# Altium integrated library Analog Devices Data Converters Digital-to-Analog Converters.IntLib: 2231 symbols (part 177 of 181)
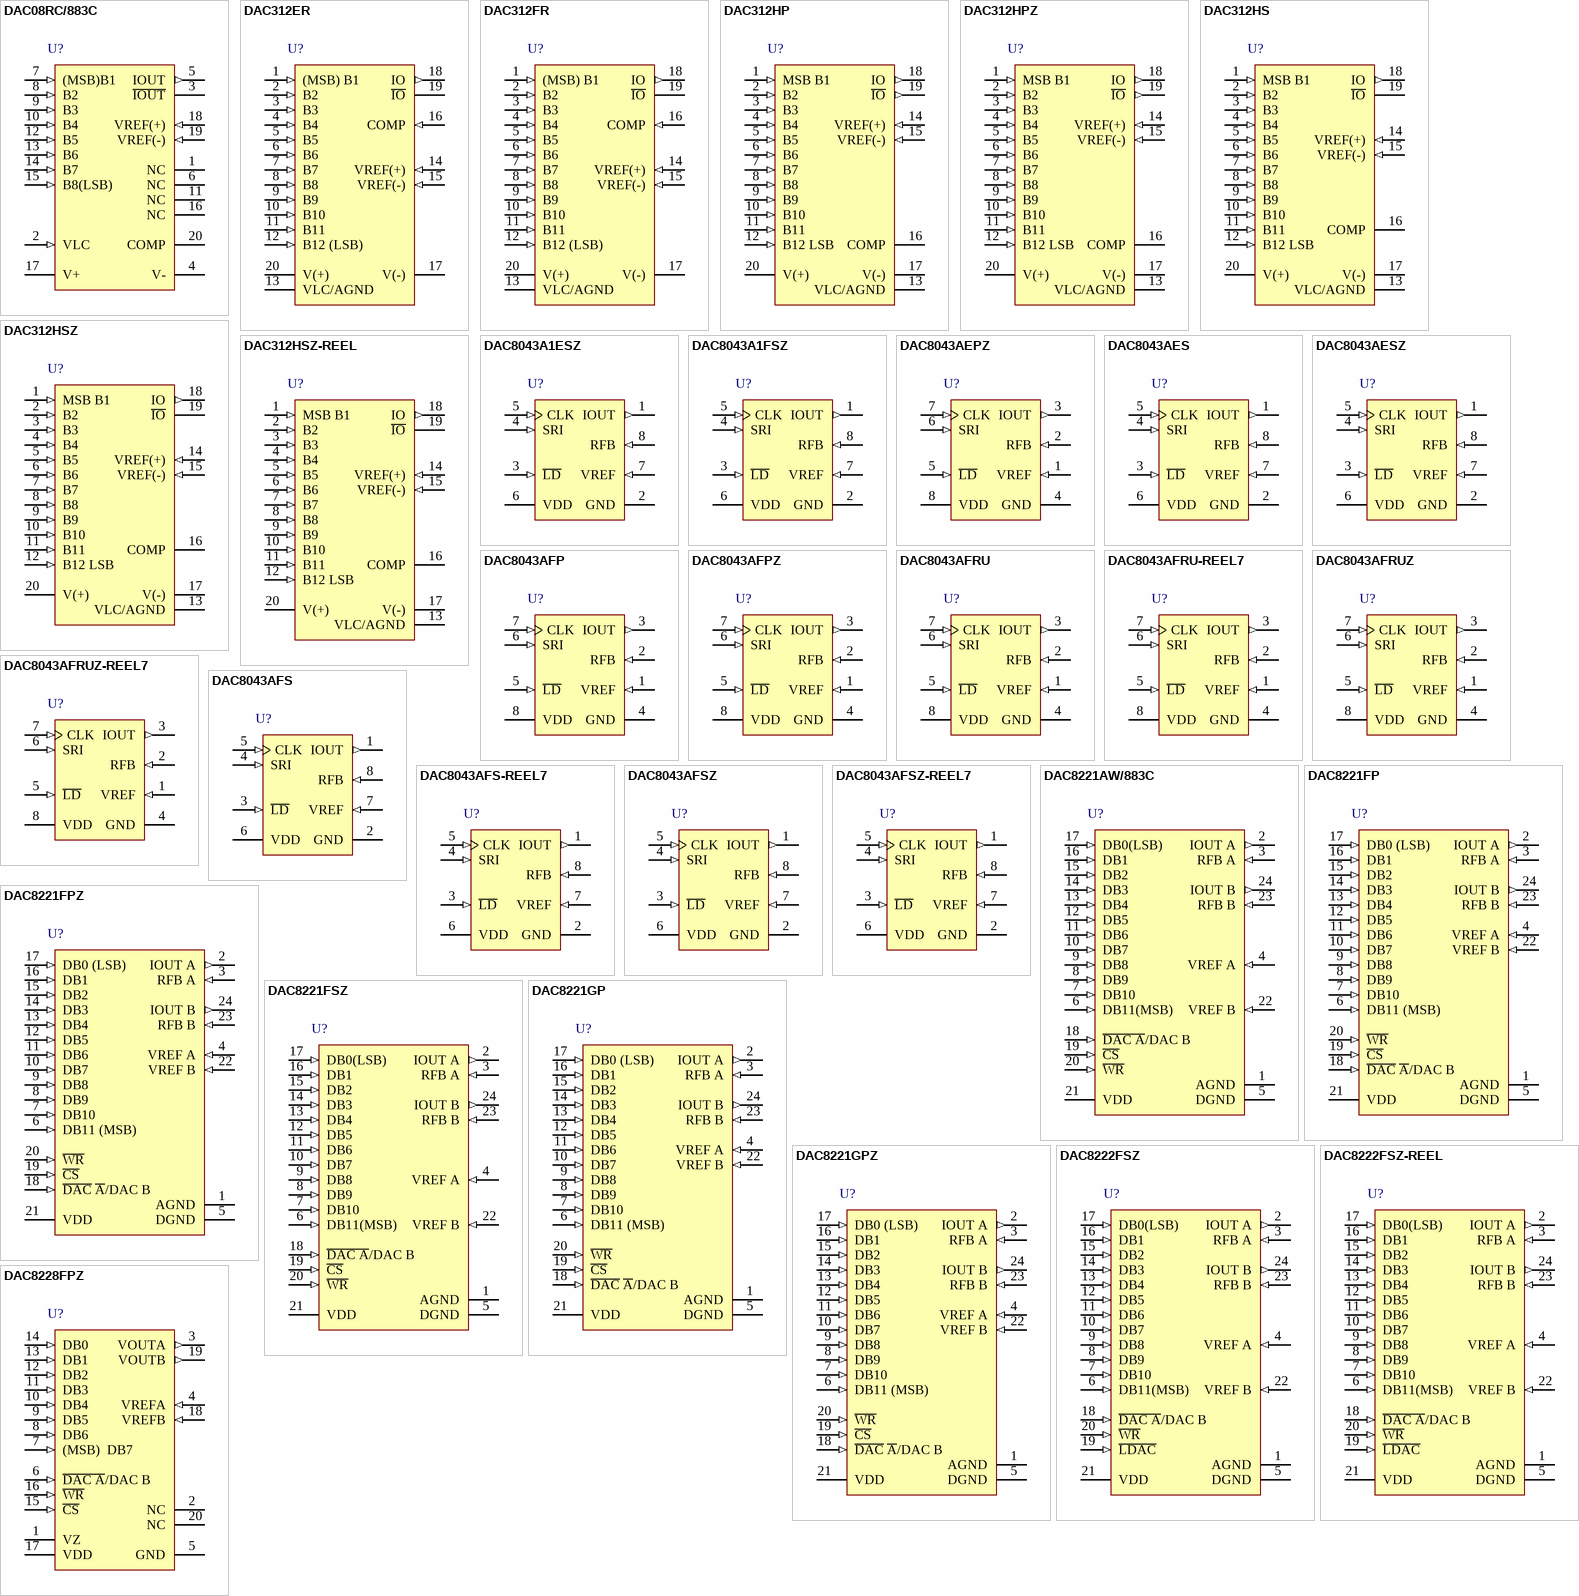
[diagram p290: symbols DAC08RC/883C to DAC8228FPZ]

## DAC8221GP
designator U?
Dual 12-Bit CMOS Buffered Multiplying Digital-to-Analog Converter, 0 to +70 degC, N-24-1, Tube; Generic Part Number: DAC8221; Manufacturer: Analog Devices; PartNumber: DAC8221GP; # DAC Outputs: 2; Max V+: 15.75V; Op Pwr Diss: 5mW; Resolution (Bits): 12; Settling Time: 450ns; Single Supply: Yes; DatasheetVersion: Rev.B; PackageVersion: 071006-A; PackageReference: N-24-1; PackageDescription: 24-Lead Plastic Dual In-Line Package [PDIP] Narrow Body; Supplier 1: Digi-Key; Supplier Part Number 1: DAC8221GP-ND; Supplier 2: Mouser; Supplier Part Number 2: 584-DAC8221GP; Packing: Tube; RoHS: N; Mounting Technology: Through Hole; Code_JEDEC: MS-001; ComponentLink1Description: Manufacturer URL; ComponentLink1URL: http://www.analog.com/en/index.html; ComponentLink2Description: Datasheet; ComponentLink2URL: http://www.analog.com/static/imported-files/data_sheets/DAC8221.pdf; ComponentLink3Description: Package Specification; ComponentLink3URL: http://www.analog.com/static/imported-files/packages/50726455539629N_24_1.pdf; ComponentLink4Description: Product URL; ComponentLink4URL: http://www.analog.com/en/digital-to-analog-converters/da-converters/dac8221/products/product.html
footprint N-24-1 (DIP, 24-Leads, Row Spacing 7.62mm, Pitch 2.54mm, Body 31.9x6.6mm)
pins: 1 AGND (power), 2 IOUT A (out), 3 RFB A (in), 4 VREF A (in), 5 DGND (power), 6 DB11 (MSB) (in), 7 DB10 (in), 8 DB9 (in), 9 DB8 (in), 10 DB7 (in), 11 DB6 (in), 12 DB5 (in), 13 DB4 (in), 14 DB3 (in), 15 DB2 (in), 16 DB1 (in), 17 DB0 (LSB) (in), 18 ~{DAC} ~{A}/DAC B (in), 19 ~{CS} (in), 20 ~{WR} (in), 21 VDD (power), 22 VREF B (in), 23 RFB B (in), 24 IOUT B (out)

## DAC8221GPZ
designator U?
Dual 12-Bit CMOS Buffered Multiplying Digital-to-Analog Converter, 0 to +70 degC, N-24-1, Pb-Free, Tube; Generic Part Number: DAC8221; Manufacturer: Analog Devices; PartNumber: DAC8221GPZ; # DAC Outputs: 2; Max V+: 15.75V; Op Pwr Diss: 5mW; Resolution (Bits): 12; Settling Time: 450ns; Single Supply: Yes; DatasheetVersion: Rev.B; PackageVersion: 071006-A; PackageReference: N-24-1; PackageDescription: 24-Lead Plastic Dual In-Line Package [PDIP] Narrow Body; Supplier 1: Digi-Key; Supplier Part Number 1: DAC8221GPZ-ND; Supplier 2: Mouser; Supplier Part Number 2: 584-DAC8221GPZ; Packing: Tube; RoHS: Y; Mounting Technology: Through Hole; Code_JEDEC: MS-001; ComponentLink1Description: Manufacturer URL; ComponentLink1URL: http://www.analog.com/en/index.html; ComponentLink2Description: Datasheet; ComponentLink2URL: http://www.analog.com/static/imported-files/data_sheets/DAC8221.pdf; ComponentLink3Description: Package Specification; ComponentLink3URL: http://www.analog.com/static/imported-files/packages/50726455539629N_24_1.pdf; ComponentLink4Description: Product URL; ComponentLink4URL: http://www.analog.com/en/digital-to-analog-converters/da-converters/dac8221/products/product.html
footprint N-24-1 (DIP, 24-Leads, Row Spacing 7.62mm, Pitch 2.54mm, Body 31.9x6.6mm)
pins: 1 AGND (power), 2 IOUT A (out), 3 RFB A (in), 4 VREF A (in), 5 DGND (power), 6 DB11 (MSB) (in), 7 DB10 (in), 8 DB9 (in), 9 DB8 (in), 10 DB7 (in), 11 DB6 (in), 12 DB5 (in), 13 DB4 (in), 14 DB3 (in), 15 DB2 (in), 16 DB1 (in), 17 DB0 (LSB) (in), 18 ~{DAC} ~{A}/DAC B (in), 19 ~{CS} (in), 20 ~{WR} (in), 21 VDD (power), 22 VREF B (in), 23 RFB B (in), 24 IOUT B (out)

## DAC8222FSZ
designator U?
Dual 12-Bit CMOS Buffered Multiplying Digital-to-Analog Converter, -40 to +85 degC, RW-24, Pb-Free, Tube; Generic Part Number: DAC8222; Manufacturer: Analog Devices; PartNumber: DAC8222FSZ; # DAC Outputs: 2; Max V+: 15.75V; Op Pwr Diss: 50µW; Resolution (Bits): 12; Settling Time: 1µs; Single Supply: Yes; DatasheetVersion: Rev.C; PackageVersion: 060706-A; PackageReference: RW-24; PackageDescription: 24-Lead Standard Small Outline Package [SOIC_W]; Supplier 1: Digi-Key; Supplier Part Number 1: DAC8222FSZ-ND; Supplier 2: Farnell; Supplier Part Number 2: 1438738; Supplier 3: Newark; Supplier Part Number 3: 59K7927; Supplier 4: Mouser; Supplier Part Number 4: 584-DAC8222FSZ; Packing: Tube; RoHS: Y; Mounting Technology: Surface Mount; Code_JEDEC: MS-013-AD; ComponentLink1Description: Manufacturer URL; ComponentLink1URL: http://www.analog.com/en/index.html; ComponentLink2Description: Datasheet; ComponentLink2URL: http://www.analog.com/static/imported-files/data_sheets/DAC8222.pdf; ComponentLink3Description: Package Specification; ComponentLink3URL: http://www.analog.com/static/imported-files/packages/33665150946139RW_24.pdf; ComponentLink4Description: Product URL; ComponentLink4URL: http://www.analog.com/en/digital-to-analog-converters/da-converters/dac8222/products/product.html
footprint RW-24_N (SOIC, 24-Leads, Body 15.4x7.5mm, Pitch 1.27mm, IPC Medium Density)
footprint RW-24_L (SOIC, 24-Leads, Body 15.4x7.5mm, Pitch 1.27mm, IPC High Density)
footprint RW-24_M (SOIC, 24-Leads, Body 15.4x7.5mm, Pitch 1.27mm, IPC Low Density)
pins: 1 AGND (power), 2 IOUT A (out), 3 RFB A (in), 4 VREF A (in), 5 DGND (power), 6 DB11(MSB) (in), 7 DB10 (in), 8 DB9 (in), 9 DB8 (in), 10 DB7 (in), 11 DB6 (in), 12 DB5 (in), 13 DB4 (in), 14 DB3 (in), 15 DB2 (in), 16 DB1 (in), 17 DB0(LSB) (in), 18 ~{DAC A}/DAC B (in), 19 ~{LDAC} (in), 20 ~{WR} (in), 21 VDD (power), 22 VREF B (in), 23 RFB B (in), 24 IOUT B (out)

## DAC8222FSZ-REEL
designator U?
Dual 12-Bit CMOS Buffered Multiplying Digital-to-Analog Converter, 0 to +70 degC, RW-24, Pb-Free, Reel; Generic Part Number: DAC8222; Manufacturer: Analog Devices; PartNumber: DAC8222FSZ-REEL; # DAC Outputs: 2; Max V+: 15.75V; Op Pwr Diss: 50µW; Resolution (Bits): 12; Settling Time: 1µs; Single Supply: Yes; DatasheetVersion: Rev.C; PackageVersion: 060706-A; PackageReference: RW-24; PackageDescription: 24-Lead Standard Small Outline Package [SOIC_W]; Supplier 1: Digi-Key; Supplier Part Number 1: DAC8222FSZ-REEL-ND; Supplier 2: Newark; Supplier Part Number 2: 52R8312; Supplier 3: Mouser; Supplier Part Number 3: 584-DAC8222FSZ-R; Packing: Reel; RoHS: Y; Mounting Technology: Surface Mount; Code_JEDEC: MS-013-AD; ComponentLink1Description: Manufacturer URL; ComponentLink1URL: http://www.analog.com/en/index.html; ComponentLink2Description: Datasheet; ComponentLink2URL: http://www.analog.com/static/imported-files/data_sheets/DAC8222.pdf; ComponentLink3Description: Package Specification; ComponentLink3URL: http://www.analog.com/static/imported-files/packages/33665150946139RW_24.pdf; ComponentLink4Description: Product URL; ComponentLink4URL: http://www.analog.com/en/digital-to-analog-converters/da-converters/dac8222/products/product.html
footprint RW-24_N (SOIC, 24-Leads, Body 15.4x7.5mm, Pitch 1.27mm, IPC Medium Density)
footprint RW-24_L (SOIC, 24-Leads, Body 15.4x7.5mm, Pitch 1.27mm, IPC High Density)
footprint RW-24_M (SOIC, 24-Leads, Body 15.4x7.5mm, Pitch 1.27mm, IPC Low Density)
pins: 1 AGND (power), 2 IOUT A (out), 3 RFB A (in), 4 VREF A (in), 5 DGND (power), 6 DB11(MSB) (in), 7 DB10 (in), 8 DB9 (in), 9 DB8 (in), 10 DB7 (in), 11 DB6 (in), 12 DB5 (in), 13 DB4 (in), 14 DB3 (in), 15 DB2 (in), 16 DB1 (in), 17 DB0(LSB) (in), 18 ~{DAC A}/DAC B (in), 19 ~{LDAC} (in), 20 ~{WR} (in), 21 VDD (power), 22 VREF B (in), 23 RFB B (in), 24 IOUT B (out)

## DAC8228FPZ
designator U?
Dual 8-Bit CMOS Voltage Output Digital-to-Analog Converter, -40 to +85 degC, N-20, Pb-Free, Tube; Generic Part Number: DAC8228; Manufacturer: Analog Devices; PartNumber: DAC8228FPZ; # DAC Outputs: 2; Max V+: 15.75V; Op Pwr Diss: 84mW; Resolution (Bits): 8; Settling Time: 2µs; Single Supply: Yes; DatasheetVersion: Rev.A; PackageVersion: 070706-A; PackageReference: N-20; PackageDescription: 20-Lead Plastic Dual In-Line Package [PDIP] Narrow Body; Supplier 1: Digi-Key; Supplier Part Number 1: DAC8228FPZ-ND; Supplier 2: Farnell; Supplier Part Number 2: 1079367; Supplier 3: Newark; Supplier Part Number 3: 31M4868; Supplier 4: Mouser; Supplier Part Number 4: 584-DAC8228FPZ; Packing: Tube; RoHS: Y; Mounting Technology: Through Hole; Code_JEDEC: MS-001; ComponentLink1Description: Manufacturer URL; ComponentLink1URL: http://www.analog.com/en/index.html; ComponentLink2Description: Datasheet; ComponentLink2URL: http://www.analog.com/static/imported-files/data_sheets/DAC8228.pdf; ComponentLink3Description: Package Specification; ComponentLink3URL: http://www.analog.com/static/imported-files/packages/50601349676519N_20.pdf; ComponentLink4Description: Product URL; ComponentLink4URL: http://www.analog.com/en/digital-to-analog-converters/da-converters/dac8228/products/product.html
footprint N-20 (DIP, 20-Leads, Row Spacing 7.62mm, Pitch 2.54mm, Body 25.9x6.6mm)
pins: 1 VZ (power), 2 NC, 3 VOUTA (out), 4 VREFA (in), 5 GND (power), 6 ~{DAC A}/DAC B (in), 7 (MSB)  DB7 (in), 8 DB6 (in), 9 DB5 (in), 10 DB4 (in), 11 DB3 (in), 12 DB2 (in), 13 DB1 (in), 14 DB0 (in), 15 ~{CS} (in), 16 ~{WR} (in), 17 VDD (power), 18 VREFB (in), 19 VOUTB (out), 20 NC

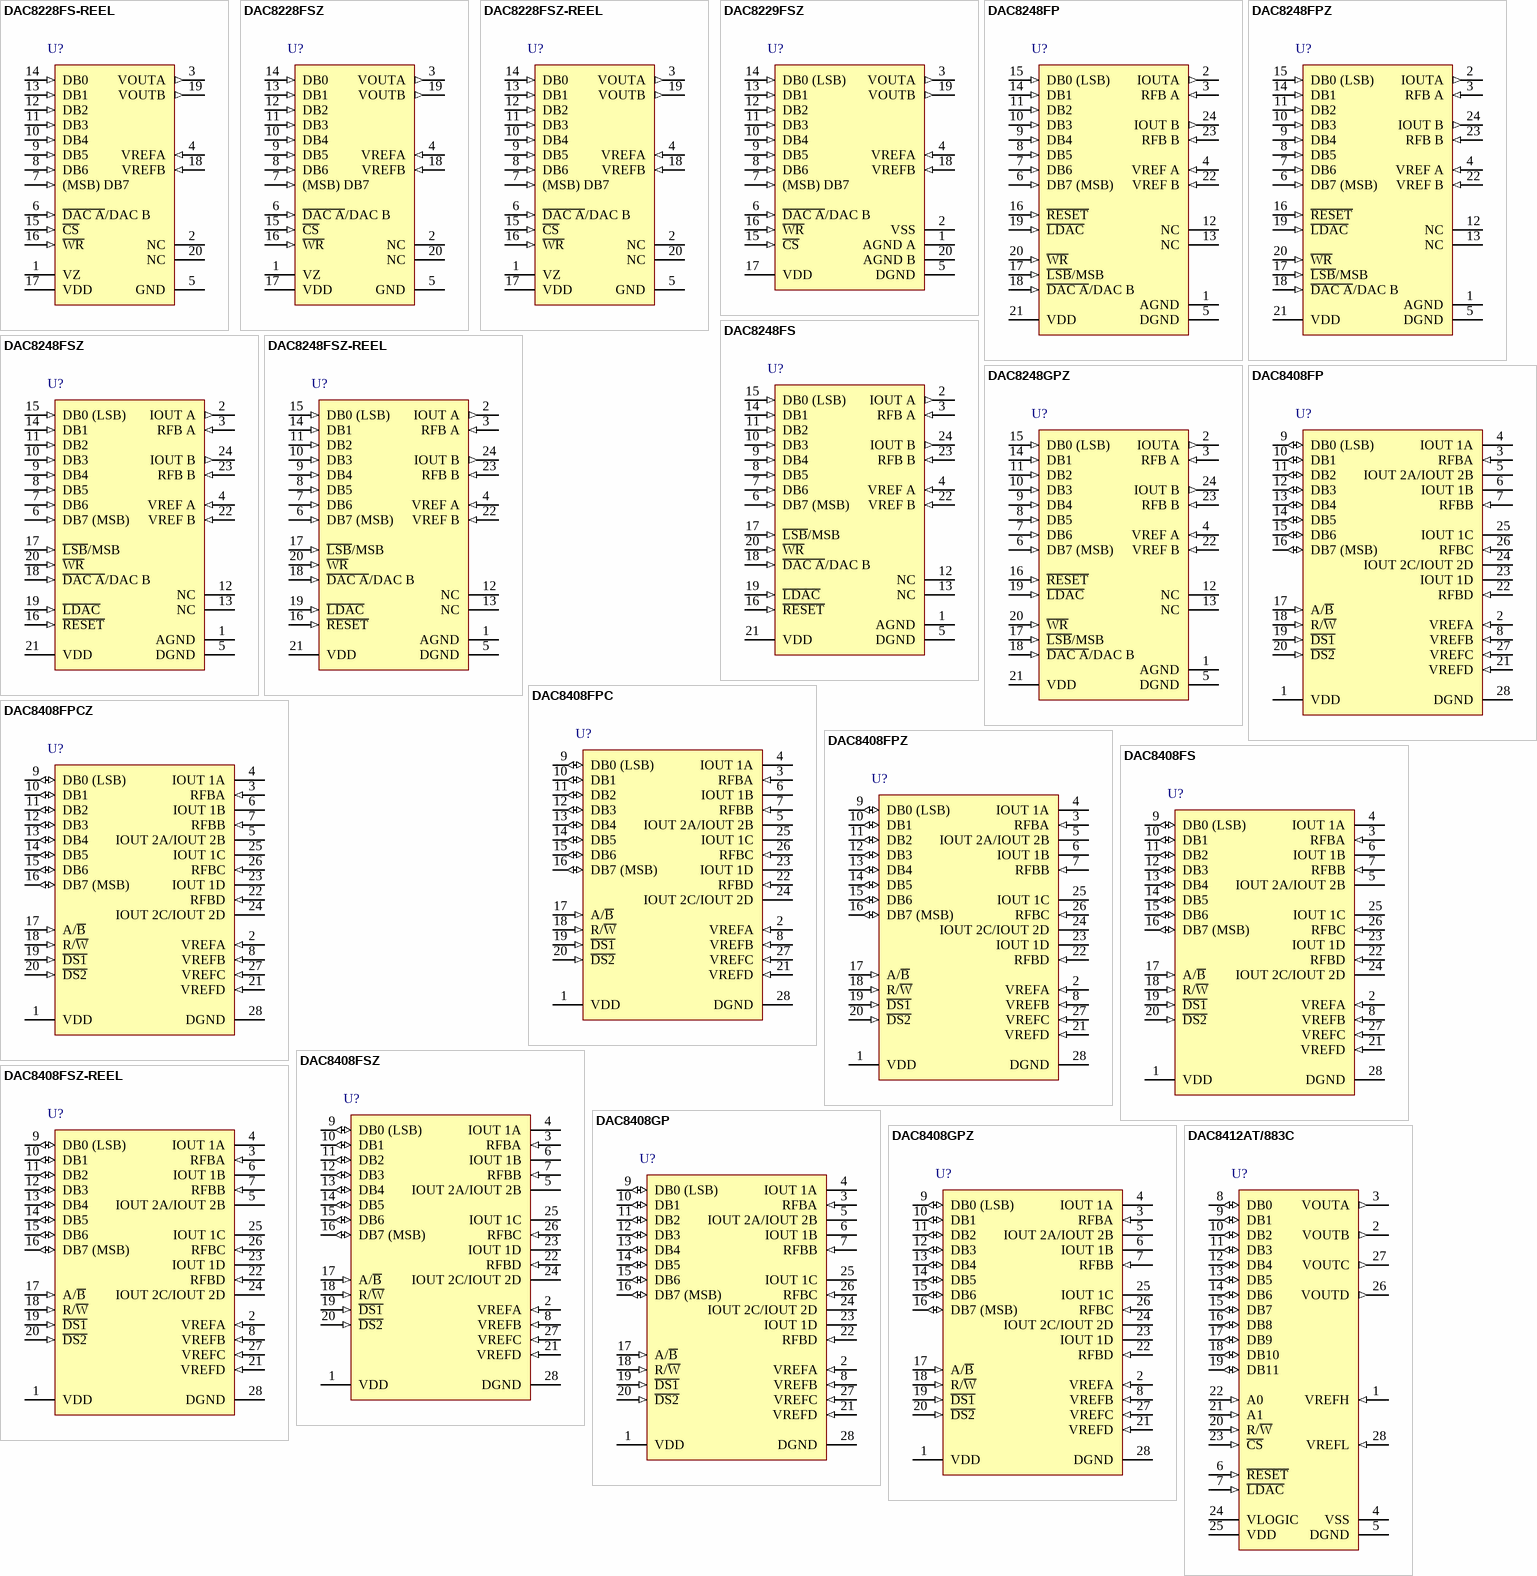
[diagram p111: symbols DAC8228FS-REEL to DAC8412AT/883C]

## DAC8228FS-REEL
designator U?
Dual 8-Bit CMOS Voltage Output Digital-to-Analog Converter, 0 to +70 degC, RW-20, Reel; Generic Part Number: DAC8228; Manufacturer: Analog Devices; PartNumber: DAC8228FS-REEL; # DAC Outputs: 2; Max V+: 15.75V; Op Pwr Diss: 84mW; Resolution (Bits): 8; Settling Time: 2µs; Single Supply: Yes; DatasheetVersion: Rev.A; PackageVersion: 060706-A; PackageReference: RW-20; PackageDescription: 20-Lead Standard Small Outline Package [SOIC_W] Wide Body; Supplier 1: Digi-Key; Supplier Part Number 1: DAC8228FS-REELTR-ND; Supplier 2: Digi-Key; Supplier Part Number 2: DAC8228FS-REELCT-ND; Supplier 3: Digi-Key; Supplier Part Number 3: DAC8228FS-REELDKR-ND; Supplier 4: Mouser; Supplier Part Number 4: 584-DAC8228FS-R; Packing: Reel; RoHS: N; Mounting Technology: Surface Mount; Code_JEDEC: MS-013-AC; ComponentLink1Description: Manufacturer URL; ComponentLink1URL: http://www.analog.com/en/index.html; ComponentLink2Description: Datasheet; ComponentLink2URL: http://www.analog.com/static/imported-files/data_sheets/DAC8228.pdf; ComponentLink3Description: Package Specification; ComponentLink3URL: http://www.analog.com/static/imported-files/packages/233848RW_20.pdf; ComponentLink4Description: Product URL; ComponentLink4URL: http://www.analog.com/en/digital-to-analog-converters/da-converters/dac8228/products/product.html
footprint RW-20_N (SOIC, 20-Leads, Body 12.8x7.5mm, Pitch 1.27mm, IPC Medium Density)
footprint RW-20_L (SOIC, 20-Leads, Body 12.8x7.5mm, Pitch 1.27mm, IPC High Density)
footprint RW-20_M (SOIC, 20-Leads, Body 12.8x7.5mm, Pitch 1.27mm, IPC Low Density)
pins: 1 VZ (power), 2 NC, 3 VOUTA (out), 4 VREFA (in), 5 GND (power), 6 ~{DAC A}/DAC B (in), 7 (MSB) DB7 (in), 8 DB6 (in), 9 DB5 (in), 10 DB4 (in), 11 DB3 (in), 12 DB2 (in), 13 DB1 (in), 14 DB0 (in), 15 ~{CS} (in), 16 ~{WR} (in), 17 VDD (power), 18 VREFB (in), 19 VOUTB (out), 20 NC

## DAC8228FSZ
designator U?
Dual 8-Bit CMOS Voltage Output Digital-to-Analog Converter, -40 to +85 degC, RW-20, Pb-Free, Tube; Generic Part Number: DAC8228; Manufacturer: Analog Devices; PartNumber: DAC8228FSZ; # DAC Outputs: 2; Max V+: 15.75V; Op Pwr Diss: 84mW; Resolution (Bits): 8; Settling Time: 2µs; Single Supply: Yes; DatasheetVersion: Rev.A; PackageVersion: 060706-A; PackageReference: RW-20; PackageDescription: 20-Lead Standard Small Outline Package [SOIC_W] Wide Body; Supplier 1: Digi-Key; Supplier Part Number 1: DAC8228FSZ-ND; Supplier 2: Mouser; Supplier Part Number 2: 584-DAC8228FSZ; Packing: Tube; RoHS: Y; Mounting Technology: Surface Mount; Code_JEDEC: MS-013-AC; ComponentLink1Description: Manufacturer URL; ComponentLink1URL: http://www.analog.com/en/index.html; ComponentLink2Description: Datasheet; ComponentLink2URL: http://www.analog.com/static/imported-files/data_sheets/DAC8228.pdf; ComponentLink3Description: Package Specification; ComponentLink3URL: http://www.analog.com/static/imported-files/packages/233848RW_20.pdf; ComponentLink4Description: Product URL; ComponentLink4URL: http://www.analog.com/en/digital-to-analog-converters/da-converters/dac8228/products/product.html
footprint RW-20_N (SOIC, 20-Leads, Body 12.8x7.5mm, Pitch 1.27mm, IPC Medium Density)
footprint RW-20_L (SOIC, 20-Leads, Body 12.8x7.5mm, Pitch 1.27mm, IPC High Density)
footprint RW-20_M (SOIC, 20-Leads, Body 12.8x7.5mm, Pitch 1.27mm, IPC Low Density)
pins: 1 VZ (power), 2 NC, 3 VOUTA (out), 4 VREFA (in), 5 GND (power), 6 ~{DAC A}/DAC B (in), 7 (MSB) DB7 (in), 8 DB6 (in), 9 DB5 (in), 10 DB4 (in), 11 DB3 (in), 12 DB2 (in), 13 DB1 (in), 14 DB0 (in), 15 ~{CS} (in), 16 ~{WR} (in), 17 VDD (power), 18 VREFB (in), 19 VOUTB (out), 20 NC

## DAC8228FSZ-REEL
designator U?
Dual 8-Bit CMOS Voltage Output Digital-to-Analog Converter, 0 to +70 degC, RW-20, Pb-Free, Reel; Generic Part Number: DAC8228; Manufacturer: Analog Devices; PartNumber: DAC8228FSZ-REEL; # DAC Outputs: 2; Max V+: 15.75V; Op Pwr Diss: 84mW; Resolution (Bits): 8; Settling Time: 2µs; Single Supply: Yes; DatasheetVersion: Rev.A; PackageVersion: 060706-A; PackageReference: RW-20; PackageDescription: 20-Lead Standard Small Outline Package [SOIC_W] Wide Body; Supplier 1: Digi-Key; Supplier Part Number 1: DAC8228FSZ-REEL-ND; Supplier 2: Mouser; Supplier Part Number 2: 584-DAC8228FSZ-R; Packing: Reel; RoHS: Y; Mounting Technology: Surface Mount; Code_JEDEC: MS-013-AC; ComponentLink1Description: Manufacturer URL; ComponentLink1URL: http://www.analog.com/en/index.html; ComponentLink2Description: Datasheet; ComponentLink2URL: http://www.analog.com/static/imported-files/data_sheets/DAC8228.pdf; ComponentLink3Description: Package Specification; ComponentLink3URL: http://www.analog.com/static/imported-files/packages/233848RW_20.pdf; ComponentLink4Description: Product URL; ComponentLink4URL: http://www.analog.com/en/digital-to-analog-converters/da-converters/dac8228/products/product.html
footprint RW-20_N (SOIC, 20-Leads, Body 12.8x7.5mm, Pitch 1.27mm, IPC Medium Density)
footprint RW-20_L (SOIC, 20-Leads, Body 12.8x7.5mm, Pitch 1.27mm, IPC High Density)
footprint RW-20_M (SOIC, 20-Leads, Body 12.8x7.5mm, Pitch 1.27mm, IPC Low Density)
pins: 1 VZ (power), 2 NC, 3 VOUTA (out), 4 VREFA (in), 5 GND (power), 6 ~{DAC A}/DAC B (in), 7 (MSB) DB7 (in), 8 DB6 (in), 9 DB5 (in), 10 DB4 (in), 11 DB3 (in), 12 DB2 (in), 13 DB1 (in), 14 DB0 (in), 15 ~{CS} (in), 16 ~{WR} (in), 17 VDD (power), 18 VREFB (in), 19 VOUTB (out), 20 NC

## DAC8229FSZ
designator U?
Dual 8-Bit CMOS Voltage Output Digital-to-Analog Converter, -40 to +85 degC, RW-20, Pb-Free, Tube; Generic Part Number: DAC8229; Manufacturer: Analog Devices; PartNumber: DAC8229FSZ; # DAC Outputs: 2; Max V+: 15.75V; Op Pwr Diss: 97mW; Resolution (Bits): 8; Settling Time: 2µs; Single Supply: No; DatasheetVersion: Rev.A; PackageVersion: 060706-A; PackageReference: RW-20; PackageDescription: 20-Lead Standard Small Outline Package [SOIC_W] Wide Body; Supplier 1: Digi-Key; Supplier Part Number 1: DAC8229FSZ-ND; Supplier 2: Farnell; Supplier Part Number 2: 2312727; Supplier 3: Newark; Supplier Part Number 3: 12M9665; Supplier 4: Mouser; Supplier Part Number 4: 584-DAC8229FSZ; Packing: Tube; RoHS: Y; Mounting Technology: Surface Mount; Code_JEDEC: MS-013-AC; ComponentLink1Description: Manufacturer URL; ComponentLink1URL: http://www.analog.com/en/index.html; ComponentLink2Description: Datasheet; ComponentLink2URL: http://www.analog.com/static/imported-files/data_sheets/DAC8229.pdf; ComponentLink3Description: Package Specification; ComponentLink3URL: http://www.analog.com/static/imported-files/packages/233848RW_20.pdf; ComponentLink4Description: Product URL; ComponentLink4URL: http://www.analog.com/en/digital-to-analog-converters/da-converters/dac8229/products/product.html
footprint RW-20_N (SOIC, 20-Leads, Body 12.8x7.5mm, Pitch 1.27mm, IPC Medium Density)
footprint RW-20_L (SOIC, 20-Leads, Body 12.8x7.5mm, Pitch 1.27mm, IPC High Density)
footprint RW-20_M (SOIC, 20-Leads, Body 12.8x7.5mm, Pitch 1.27mm, IPC Low Density)
pins: 1 AGND A (power), 2 VSS (power), 3 VOUTA (out), 4 VREFA (in), 5 DGND (power), 6 ~{DAC A}/DAC B (in), 7 (MSB) DB7 (in), 8 DB6 (in), 9 DB5 (in), 10 DB4 (in), 11 DB3 (in), 12 DB2 (in), 13 DB1 (in), 14 DB0 (LSB) (in), 15 ~{CS} (in), 16 ~{WR} (in), 17 VDD (power), 18 VREFB (in), 19 VOUTB (out), 20 AGND B (power)

## DAC8248FP
designator U?
Dual 12-Bit (8-Bit Byte) CMOS Double-Buffered Digital-to-Analog Converter, -40 to +85 degC, N-24-1, Tube; Generic Part Number: DAC8248; Manufacturer: Analog Devices; PartNumber: DAC8248FP; # DAC Outputs: 2; Max V+: 15.75V; Op Pwr Diss: 30mW; Resolution (Bits): 12; Settling Time: 1µs; Single Supply: Yes; DatasheetVersion: Rev.B; PackageVersion: 071006-A; PackageReference: N-24-1; PackageDescription: 24-Lead Plastic Dual In-Line Package [PDIP] Narrow Body; Supplier 1: Digi-Key; Supplier Part Number 1: DAC8248FP-ND; Supplier 2: Mouser; Supplier Part Number 2: 584-DAC8248FP; Packing: Tube; RoHS: N; Mounting Technology: Through Hole; Code_JEDEC: MS-001; ComponentLink1Description: Manufacturer URL; ComponentLink1URL: http://www.analog.com/en/index.html; ComponentLink2Description: Datasheet; ComponentLink2URL: http://www.analog.com/static/imported-files/data_sheets/DAC8248.pdf; ComponentLink3Description: Package Specification; ComponentLink3URL: http://www.analog.com/static/imported-files/packages/50726455539629N_24_1.pdf; ComponentLink4Description: Product URL; ComponentLink4URL: http://www.analog.com/en/digital-to-analog-converters/da-converters/dac8248/products/product.html
footprint N-24-1 (DIP, 24-Leads, Row Spacing 7.62mm, Pitch 2.54mm, Body 31.9x6.6mm)
pins: 1 AGND (power), 2 IOUTA (out), 3 RFB A (in), 4 VREF A (in), 5 DGND (power), 6 DB7 (MSB) (in), 7 DB6 (in), 8 DB5 (in), 9 DB4 (in), 10 DB3 (in), 11 DB2 (in), 12 NC, 13 NC, 14 DB1 (in), 15 DB0 (LSB) (in), 16 ~{RESET} (in), 17 ~{LSB}/MSB (in), 18 ~{DAC A}/DAC B (in), 19 ~{LDAC} (in), 20 ~{WR} (in), 21 VDD (power), 22 VREF B (in), 23 RFB B (in), 24 IOUT B (out)

## DAC8248FPZ
designator U?
Dual 12-Bit (8-Bit Byte) CMOS Double-Buffered Digital-to-Analog Converter, -40 to +85 degC, N-24-1, Pb-Free, Tube; Generic Part Number: DAC8248; Manufacturer: Analog Devices; PartNumber: DAC8248FPZ; # DAC Outputs: 2; Max V+: 15.75V; Op Pwr Diss: 30mW; Resolution (Bits): 12; Settling Time: 1µs; Single Supply: Yes; DatasheetVersion: Rev.B; PackageVersion: 071006-A; PackageReference: N-24-1; PackageDescription: 24-Lead Plastic Dual In-Line Package [PDIP] Narrow Body; Supplier 1: Digi-Key; Supplier Part Number 1: DAC8248FPZ-ND; Supplier 2: Farnell; Supplier Part Number 2: 1581906; Supplier 3: Newark; Supplier Part Number 3: 15P1429; Supplier 4: Mouser; Supplier Part Number 4: 584-DAC8248FPZ; Packing: Tube; RoHS: Y; Mounting Technology: Through Hole; Code_JEDEC: MS-001; ComponentLink1Description: Manufacturer URL; ComponentLink1URL: http://www.analog.com/en/index.html; ComponentLink2Description: Datasheet; ComponentLink2URL: http://www.analog.com/static/imported-files/data_sheets/DAC8248.pdf; ComponentLink3Description: Package Specification; ComponentLink3URL: http://www.analog.com/static/imported-files/packages/50726455539629N_24_1.pdf; ComponentLink4Description: Product URL; ComponentLink4URL: http://www.analog.com/en/digital-to-analog-converters/da-converters/dac8248/products/product.html
footprint N-24-1 (DIP, 24-Leads, Row Spacing 7.62mm, Pitch 2.54mm, Body 31.9x6.6mm)
pins: 1 AGND (power), 2 IOUTA (out), 3 RFB A (in), 4 VREF A (in), 5 DGND (power), 6 DB7 (MSB) (in), 7 DB6 (in), 8 DB5 (in), 9 DB4 (in), 10 DB3 (in), 11 DB2 (in), 12 NC, 13 NC, 14 DB1 (in), 15 DB0 (LSB) (in), 16 ~{RESET} (in), 17 ~{LSB}/MSB (in), 18 ~{DAC A}/DAC B (in), 19 ~{LDAC} (in), 20 ~{WR} (in), 21 VDD (power), 22 VREF B (in), 23 RFB B (in), 24 IOUT B (out)

## DAC8248FS
designator U?
Dual 12-Bit (8-Bit Byte) CMOS Double-Buffered Digital-to-Analog Converter, RW-24, Tube; Generic Part Number: DAC8248; Manufacturer: Analog Devices; PartNumber: DAC8248FS; # DAC Outputs: 2; Max V+: 15.75V; Op Pwr Diss: 30mW; Resolution (Bits): 12; Settling Time: 1µs; Single Supply: Yes; DatasheetVersion: Rev.B; PackageVersion: 060706-A; PackageReference: RW-24; PackageDescription: 24-Lead Standard Small Outline Package [SOIC_W]; Supplier 1: Digi-Key; Supplier Part Number 1: DAC8248FS-ND; Supplier 2: Mouser; Supplier Part Number 2: 584-DAC8248FS; Packing: Tube; RoHS: N; Mounting Technology: Surface Mount; Code_JEDEC: MS-013-AD; ComponentLink1Description: Manufacturer URL; ComponentLink1URL: http://www.analog.com/en/index.html; ComponentLink2Description: Datasheet; ComponentLink2URL: http://www.analog.com/static/imported-files/data_sheets/DAC8248.pdf; ComponentLink3Description: Package Specification; ComponentLink3URL: http://www.analog.com/static/imported-files/packages/33665150946139RW_24.pdf; ComponentLink4Description: Product URL; ComponentLink4URL: http://www.analog.com/en/digital-to-analog-converters/da-converters/dac8248/products/product.html
footprint RW-24_N (SOIC, 24-Leads, Body 15.4x7.5mm, Pitch 1.27mm, IPC Medium Density)
footprint RW-24_L (SOIC, 24-Leads, Body 15.4x7.5mm, Pitch 1.27mm, IPC High Density)
footprint RW-24_M (SOIC, 24-Leads, Body 15.4x7.5mm, Pitch 1.27mm, IPC Low Density)
pins: 1 AGND (power), 2 IOUT A (out), 3 RFB A (in), 4 VREF A (in), 5 DGND (power), 6 DB7 (MSB) (in), 7 DB6 (in), 8 DB5 (in), 9 DB4 (in), 10 DB3 (in), 11 DB2 (in), 12 NC, 13 NC, 14 DB1 (in), 15 DB0 (LSB) (in), 16 ~{RESET} (in), 17 ~{LSB}/MSB (in), 18 ~{DAC A}/DAC B (in), 19 ~{LDAC} (in), 20 ~{WR} (in), 21 VDD (power), 22 VREF B (in), 23 RFB B (in), 24 IOUT B (out)

## DAC8248FSZ
designator U?
Dual 12-Bit (8-Bit Byte) CMOS Double-Buffered Digital-to-Analog Converter, RW-24, Pb-Free, Tube; Generic Part Number: DAC8248; Manufacturer: Analog Devices; PartNumber: DAC8248FSZ; # DAC Outputs: 2; Max V+: 15.75V; Op Pwr Diss: 30mW; Resolution (Bits): 12; Settling Time: 1µs; Single Supply: Yes; DatasheetVersion: Rev.B; PackageVersion: 060706-A; PackageReference: RW-24; PackageDescription: 24-Lead Standard Small Outline Package [SOIC_W]; Supplier 1: Digi-Key; Supplier Part Number 1: DAC8248FSZ-ND; Supplier 2: Mouser; Supplier Part Number 2: 584-DAC8248FSZ; Packing: Tube; RoHS: Y; Mounting Technology: Surface Mount; Code_JEDEC: MS-013-AD; ComponentLink1Description: Manufacturer URL; ComponentLink1URL: http://www.analog.com/en/index.html; ComponentLink2Description: Datasheet; ComponentLink2URL: http://www.analog.com/static/imported-files/data_sheets/DAC8248.pdf; ComponentLink3Description: Package Specification; ComponentLink3URL: http://www.analog.com/static/imported-files/packages/33665150946139RW_24.pdf; ComponentLink4Description: Product URL; ComponentLink4URL: http://www.analog.com/en/digital-to-analog-converters/da-converters/dac8248/products/product.html
footprint RW-24_N (SOIC, 24-Leads, Body 15.4x7.5mm, Pitch 1.27mm, IPC Medium Density)
footprint RW-24_L (SOIC, 24-Leads, Body 15.4x7.5mm, Pitch 1.27mm, IPC High Density)
footprint RW-24_M (SOIC, 24-Leads, Body 15.4x7.5mm, Pitch 1.27mm, IPC Low Density)
pins: 1 AGND (power), 2 IOUT A (out), 3 RFB A (in), 4 VREF A (in), 5 DGND (power), 6 DB7 (MSB) (in), 7 DB6 (in), 8 DB5 (in), 9 DB4 (in), 10 DB3 (in), 11 DB2 (in), 12 NC, 13 NC, 14 DB1 (in), 15 DB0 (LSB) (in), 16 ~{RESET} (in), 17 ~{LSB}/MSB (in), 18 ~{DAC A}/DAC B (in), 19 ~{LDAC} (in), 20 ~{WR} (in), 21 VDD (power), 22 VREF B (in), 23 RFB B (in), 24 IOUT B (out)

## DAC8248FSZ-REEL
designator U?
Dual 12-Bit (8-Bit Byte) CMOS Double-Buffered Digital-to-Analog Converter, RW-24, Pb-Free, Reel; Generic Part Number: DAC8248; Manufacturer: Analog Devices; PartNumber: DAC8248FSZ-REEL; # DAC Outputs: 2; Max V+: 15.75V; Op Pwr Diss: 30mW; Resolution (Bits): 12; Settling Time: 1µs; Single Supply: Yes; DatasheetVersion: Rev.B; PackageVersion: 060706-A; PackageReference: RW-24; PackageDescription: 24-Lead Standard Small Outline Package [SOIC_W]; Supplier 1: Digi-Key; Supplier Part Number 1: DAC8248FSZ-REEL-ND; Supplier 2: Mouser; Supplier Part Number 2: 584-DAC8248FSZ-R; Packing: Reel; RoHS: Y; Mounting Technology: Surface Mount; Code_JEDEC: MS-013-AD; ComponentLink1Description: Manufacturer URL; ComponentLink1URL: http://www.analog.com/en/index.html; ComponentLink2Description: Datasheet; ComponentLink2URL: http://www.analog.com/static/imported-files/data_sheets/DAC8248.pdf; ComponentLink3Description: Package Specification; ComponentLink3URL: http://www.analog.com/static/imported-files/packages/33665150946139RW_24.pdf; ComponentLink4Description: Product URL; ComponentLink4URL: http://www.analog.com/en/digital-to-analog-converters/da-converters/dac8248/products/product.html
footprint RW-24_N (SOIC, 24-Leads, Body 15.4x7.5mm, Pitch 1.27mm, IPC Medium Density)
footprint RW-24_L (SOIC, 24-Leads, Body 15.4x7.5mm, Pitch 1.27mm, IPC High Density)
footprint RW-24_M (SOIC, 24-Leads, Body 15.4x7.5mm, Pitch 1.27mm, IPC Low Density)
pins: 1 AGND (power), 2 IOUT A (out), 3 RFB A (in), 4 VREF A (in), 5 DGND (power), 6 DB7 (MSB) (in), 7 DB6 (in), 8 DB5 (in), 9 DB4 (in), 10 DB3 (in), 11 DB2 (in), 12 NC, 13 NC, 14 DB1 (in), 15 DB0 (LSB) (in), 16 ~{RESET} (in), 17 ~{LSB}/MSB (in), 18 ~{DAC A}/DAC B (in), 19 ~{LDAC} (in), 20 ~{WR} (in), 21 VDD (power), 22 VREF B (in), 23 RFB B (in), 24 IOUT B (out)

## DAC8248GPZ
designator U?
Dual 12-Bit (8-Bit Byte) CMOS Double-Buffered Digital-to-Analog Converter, 0 to +70 degC, N-24-1, Pb-Free, Tube; Generic Part Number: DAC8248; Manufacturer: Analog Devices; PartNumber: DAC8248GPZ; # DAC Outputs: 2; Max V+: 15.75V; Op Pwr Diss: 30mW; Resolution (Bits): 12; Settling Time: 1µs; Single Supply: Yes; DatasheetVersion: Rev.B; PackageVersion: 071006-A; PackageReference: N-24-1; PackageDescription: 24-Lead Plastic Dual In-Line Package [PDIP] Narrow Body; Supplier 1: Digi-Key; Supplier Part Number 1: DAC8248GPZ-ND; Supplier 2: Mouser; Supplier Part Number 2: 584-DAC8248GPZ; Packing: Tube; RoHS: Y; Mounting Technology: Through Hole; Code_JEDEC: MS-001; ComponentLink1Description: Manufacturer URL; ComponentLink1URL: http://www.analog.com/en/index.html; ComponentLink2Description: Datasheet; ComponentLink2URL: http://www.analog.com/static/imported-files/data_sheets/DAC8248.pdf; ComponentLink3Description: Package Specification; ComponentLink3URL: http://www.analog.com/static/imported-files/packages/50726455539629N_24_1.pdf; ComponentLink4Description: Product URL; ComponentLink4URL: http://www.analog.com/en/digital-to-analog-converters/da-converters/dac8248/products/product.html
footprint N-24-1 (DIP, 24-Leads, Row Spacing 7.62mm, Pitch 2.54mm, Body 31.9x6.6mm)
pins: 1 AGND (power), 2 IOUTA (out), 3 RFB A (in), 4 VREF A (in), 5 DGND (power), 6 DB7 (MSB) (in), 7 DB6 (in), 8 DB5 (in), 9 DB4 (in), 10 DB3 (in), 11 DB2 (in), 12 NC, 13 NC, 14 DB1 (in), 15 DB0 (LSB) (in), 16 ~{RESET} (in), 17 ~{LSB}/MSB (in), 18 ~{DAC A}/DAC B (in), 19 ~{LDAC} (in), 20 ~{WR} (in), 21 VDD (power), 22 VREF B (in), 23 RFB B (in), 24 IOUT B (out)

## DAC8408FP
designator U?
Quad 8-Bit CMOS Digital-to-Analog Converter with Memory, -40 to +85 degC, N-28-2, Tube; Generic Part Number: DAC8408; Manufacturer: Analog Devices; PartNumber: DAC8408FP; # DAC Outputs: 4; Max V+: 5.5V; Op Pwr Diss: 5mW; Resolution (Bits): 8; Settling Time: 190ns; Single Supply: Yes; DatasheetVersion: Rev.A; PackageVersion: 071006-A; PackageReference: N-28-2; PackageDescription: 28-Lead Plastic Dual In-Line Package [PDIP]; Supplier 1: Digi-Key; Supplier Part Number 1: DAC8408FP-ND; Supplier 2: Mouser; Supplier Part Number 2: 584-DAC8408FP; Packing: Tube; RoHS: N; Mounting Technology: Through Hole; Code_JEDEC: MS-011; ComponentLink1Description: Manufacturer URL; ComponentLink1URL: http://www.analog.com/en/index.html; ComponentLink2Description: Datasheet; ComponentLink2URL: http://www.analog.com/static/imported-files/data_sheets/DAC8408.pdf; ComponentLink3Description: Package Specification; ComponentLink3URL: http://www.analog.com/static/imported-files/packages/50849324123784N_28_2.pdf; ComponentLink4Description: Product URL; ComponentLink4URL: http://www.analog.com/en/digital-to-analog-converters/da-converters/dac8408/products/product.html
footprint N-28-2 (DIP, 28-Leads, Row Spacing 15.55mm, Pitch 2.54mm, Body 37.4x13.5mm)
pins: 1 VDD (power), 2 VREFA (in), 3 RFBA (in), 4 IOUT 1A (hiz), 5 IOUT 2A/IOUT 2B (hiz), 6 IOUT 1B (hiz), 7 RFBB (in), 8 VREFB (in), 9 DB0 (LSB) (io), 10 DB1 (io), 11 DB2 (io), 12 DB3 (io), 13 DB4 (io), 14 DB5 (io), 15 DB6 (io), 16 DB7 (MSB) (io), 17 A/~{B} (in), 18 R/~{W} (in), 19 ~{DS1} (in), 20 ~{DS2} (in), 21 VREFD (in), 22 RFBD (in), 23 IOUT 1D (hiz), 24 IOUT 2C/IOUT 2D (hiz), 25 IOUT 1C (hiz), 26 RFBC (in), 27 VREFC (in), 28 DGND (power)

## DAC8408FPC
designator U?
Quad 8-Bit CMOS Digital-to-Analog Converter with Memory, -40 to +85 degC, P-28, Tube; Generic Part Number: DAC8408; Manufacturer: Analog Devices; PartNumber: DAC8408FPC; # DAC Outputs: 4; Max V+: 5.5V; Op Pwr Diss: 5mW; Resolution (Bits): 8; Settling Time: 190ns; Single Supply: Yes; DatasheetVersion: Rev.A; PackageVersion: 042508-A; PackageReference: P-28; PackageDescription: 28-Lead Plastic Leaded Chip Carrier [PLCC]; Supplier 1: Digi-Key; Supplier Part Number 1: DAC8408FPC-ND; Supplier 2: Newark; Supplier Part Number 2: 66F5723; Supplier 3: Mouser; Supplier Part Number 3: 584-DAC8408FPC; Packing: Tube; RoHS: N; Mounting Technology: Surface Mount; Code_JEDEC: MO-047-AB; ComponentLink1Description: Manufacturer URL; ComponentLink1URL: http://www.analog.com/en/index.html; ComponentLink2Description: Datasheet; ComponentLink2URL: http://www.analog.com/static/imported-files/data_sheets/DAC8408.pdf; ComponentLink3Description: Package Specification; ComponentLink3URL: http://www.analog.com/static/imported-files/packages/PKG_PDF/PLCC(P)/P_28.pdf; ComponentLink4Description: Product URL; ComponentLink4URL: http://www.analog.com/en/digital-to-analog-converters/da-converters/dac8408/products/product.html
footprint P-28_N (Leaded Chip Carrier, 28-Leads, Body 11.5x11.5mm, Pitch 1.27mm, IPC Medium Density)
footprint P-28_L (Leaded Chip Carrier, 28-Leads, Body 11.5x11.5mm, Pitch 1.27mm, IPC High Density)
footprint P-28_M (Leaded Chip Carrier, 28-Leads, Body 11.5x11.5mm, Pitch 1.27mm, IPC Low Density)
pins: 1 VDD (power), 2 VREFA (in), 3 RFBA (in), 4 IOUT 1A (hiz), 5 IOUT 2A/IOUT 2B (hiz), 6 IOUT 1B (hiz), 7 RFBB (in), 8 VREFB (in), 9 DB0 (LSB) (io), 10 DB1 (io), 11 DB2 (io), 12 DB3 (io), 13 DB4 (io), 14 DB5 (io), 15 DB6 (io), 16 DB7 (MSB) (io), 17 A/~{B} (in), 18 R/~{W} (in), 19 ~{DS1} (in), 20 ~{DS2} (in), 21 VREFD (in), 22 RFBD (in), 23 IOUT 1D (hiz), 24 IOUT 2C/IOUT 2D (hiz), 25 IOUT 1C (hiz), 26 RFBC (in), 27 VREFC (in), 28 DGND (power)

## DAC8408FPCZ
designator U?
Quad 8-Bit CMOS Digital-to-Analog Converter with Memory, -40 to +85 degC, P-28, Pb-Free, Tube; Generic Part Number: DAC8408; Manufacturer: Analog Devices; PartNumber: DAC8408FPCZ; # DAC Outputs: 4; Max V+: 5.5V; Op Pwr Diss: 5mW; Resolution (Bits): 8; Settling Time: 190ns; Single Supply: Yes; DatasheetVersion: Rev.A; PackageVersion: 042508-A; PackageReference: P-28; PackageDescription: 28-Lead Plastic Leaded Chip Carrier [PLCC]; Supplier 1: Digi-Key; Supplier Part Number 1: DAC8408FPCZ-ND; Supplier 2: Mouser; Supplier Part Number 2: 584-DAC8408FPCZ; Packing: Tube; RoHS: Y; Mounting Technology: Surface Mount; Code_JEDEC: MO-047-AB; ComponentLink1Description: Manufacturer URL; ComponentLink1URL: http://www.analog.com/en/index.html; ComponentLink2Description: Datasheet; ComponentLink2URL: http://www.analog.com/static/imported-files/data_sheets/DAC8408.pdf; ComponentLink3Description: Package Specification; ComponentLink3URL: http://www.analog.com/static/imported-files/packages/PKG_PDF/PLCC(P)/P_28.pdf; ComponentLink4Description: Product URL; ComponentLink4URL: http://www.analog.com/en/digital-to-analog-converters/da-converters/dac8408/products/product.html
footprint P-28_N (Leaded Chip Carrier, 28-Leads, Body 11.5x11.5mm, Pitch 1.27mm, IPC Medium Density)
footprint P-28_L (Leaded Chip Carrier, 28-Leads, Body 11.5x11.5mm, Pitch 1.27mm, IPC High Density)
footprint P-28_M (Leaded Chip Carrier, 28-Leads, Body 11.5x11.5mm, Pitch 1.27mm, IPC Low Density)
pins: 1 VDD (power), 2 VREFA (in), 3 RFBA (in), 4 IOUT 1A (hiz), 5 IOUT 2A/IOUT 2B (hiz), 6 IOUT 1B (hiz), 7 RFBB (in), 8 VREFB (in), 9 DB0 (LSB) (io), 10 DB1 (io), 11 DB2 (io), 12 DB3 (io), 13 DB4 (io), 14 DB5 (io), 15 DB6 (io), 16 DB7 (MSB) (io), 17 A/~{B} (in), 18 R/~{W} (in), 19 ~{DS1} (in), 20 ~{DS2} (in), 21 VREFD (in), 22 RFBD (in), 23 IOUT 1D (hiz), 24 IOUT 2C/IOUT 2D (hiz), 25 IOUT 1C (hiz), 26 RFBC (in), 27 VREFC (in), 28 DGND (power)

## DAC8408FPZ
designator U?
Quad 8-Bit CMOS Digital-to-Analog Converter with Memory, -40 to +85 degC, N-28-2, Pb-Free, Tube; Generic Part Number: DAC8408; Manufacturer: Analog Devices; PartNumber: DAC8408FPZ; # DAC Outputs: 4; Max V+: 5.5V; Op Pwr Diss: 5mW; Resolution (Bits): 8; Settling Time: 190ns; Single Supply: Yes; DatasheetVersion: Rev.A; PackageVersion: 071006-A; PackageReference: N-28-2; PackageDescription: 28-Lead Plastic Dual In-Line Package [PDIP]; Supplier 1: Digi-Key; Supplier Part Number 1: DAC8408FPZ-ND; Supplier 2: Newark; Supplier Part Number 2: 59K7936; Supplier 3: Mouser; Supplier Part Number 3: 584-DAC8408FPZ; Packing: Tube; RoHS: Y; Mounting Technology: Through Hole; Code_JEDEC: MS-011; ComponentLink1Description: Manufacturer URL; ComponentLink1URL: http://www.analog.com/en/index.html; ComponentLink2Description: Datasheet; ComponentLink2URL: http://www.analog.com/static/imported-files/data_sheets/DAC8408.pdf; ComponentLink3Description: Package Specification; ComponentLink3URL: http://www.analog.com/static/imported-files/packages/50849324123784N_28_2.pdf; ComponentLink4Description: Product URL; ComponentLink4URL: http://www.analog.com/en/digital-to-analog-converters/da-converters/dac8408/products/product.html
footprint N-28-2 (DIP, 28-Leads, Row Spacing 15.55mm, Pitch 2.54mm, Body 37.4x13.5mm)
pins: 1 VDD (power), 2 VREFA (in), 3 RFBA (in), 4 IOUT 1A (hiz), 5 IOUT 2A/IOUT 2B (hiz), 6 IOUT 1B (hiz), 7 RFBB (in), 8 VREFB (in), 9 DB0 (LSB) (io), 10 DB1 (io), 11 DB2 (io), 12 DB3 (io), 13 DB4 (io), 14 DB5 (io), 15 DB6 (io), 16 DB7 (MSB) (io), 17 A/~{B} (in), 18 R/~{W} (in), 19 ~{DS1} (in), 20 ~{DS2} (in), 21 VREFD (in), 22 RFBD (in), 23 IOUT 1D (hiz), 24 IOUT 2C/IOUT 2D (hiz), 25 IOUT 1C (hiz), 26 RFBC (in), 27 VREFC (in), 28 DGND (power)

## DAC8408FS
designator U?
Quad 8-Bit CMOS Digital-to-Analog Converter with Memory, -40 to +85 degC, RW-28, Tube; Generic Part Number: DAC8408; Manufacturer: Analog Devices; PartNumber: DAC8408FS; # DAC Outputs: 4; Max V+: 5.5V; Op Pwr Diss: 5mW; Resolution (Bits): 8; Settling Time: 190ns; Single Supply: Yes; DatasheetVersion: Rev.A; PackageVersion: 060706-A; PackageReference: RW-28; PackageDescription: 28-Lead Standard Small Outline Package [SOIC_W]; Supplier 1: Digi-Key; Supplier Part Number 1: DAC8408FS-ND; Supplier 2: Mouser; Supplier Part Number 2: 584-DAC8408FS; Packing: Tube; RoHS: N; Mounting Technology: Surface Mount; Code_JEDEC: MS-013-AE; ComponentLink1Description: Manufacturer URL; ComponentLink1URL: http://www.analog.com/en/index.html; ComponentLink2Description: Datasheet; ComponentLink2URL: http://www.analog.com/static/imported-files/data_sheets/DAC8408.pdf; ComponentLink3Description: Product URL; ComponentLink3URL: http://www.analog.com/en/digital-to-analog-converters/da-converters/dac8408/products/product.html
footprint RW-28_N (SOIC, 28-Leads, Body 17.9x7.5mm, Pitch 1.27mm, IPC Medium Density)
footprint RW-28_L (SOIC, 28-Leads, Body 17.9x7.5mm, Pitch 1.27mm, IPC High Density)
footprint RW-28_M (SOIC, 28-Leads, Body 17.9x7.5mm, Pitch 1.27mm, IPC Low Density)
pins: 1 VDD (power), 2 VREFA (in), 3 RFBA (in), 4 IOUT 1A (hiz), 5 IOUT 2A/IOUT 2B (hiz), 6 IOUT 1B (hiz), 7 RFBB (in), 8 VREFB (in), 9 DB0 (LSB) (io), 10 DB1 (io), 11 DB2 (io), 12 DB3 (io), 13 DB4 (io), 14 DB5 (io), 15 DB6 (io), 16 DB7 (MSB) (io), 17 A/~{B} (in), 18 R/~{W} (in), 19 ~{DS1} (in), 20 ~{DS2} (in), 21 VREFD (in), 22 RFBD (in), 23 IOUT 1D (hiz), 24 IOUT 2C/IOUT 2D (hiz), 25 IOUT 1C (hiz), 26 RFBC (in), 27 VREFC (in), 28 DGND (power)

## DAC8408FSZ
designator U?
Quad 8-Bit CMOS Digital-to-Analog Converter with Memory, -40 to +85 degC, RW-28, Pb-Free, Tube; Generic Part Number: DAC8408; Manufacturer: Analog Devices; PartNumber: DAC8408FSZ; # DAC Outputs: 4; Max V+: 5.5V; Op Pwr Diss: 5mW; Resolution (Bits): 8; Settling Time: 190ns; Single Supply: Yes; DatasheetVersion: Rev.A; PackageVersion: 060706-A; PackageReference: RW-28; PackageDescription: 28-Lead Standard Small Outline Package [SOIC_W]; Supplier 1: Digi-Key; Supplier Part Number 1: DAC8408FSZ-ND; Supplier 2: Farnell; Supplier Part Number 2: 1438739; Supplier 3: Mouser; Supplier Part Number 3: 584-DAC8408FSZ; Packing: Tube; RoHS: Y; Mounting Technology: Surface Mount; Code_JEDEC: MS-013-AE; ComponentLink1Description: Manufacturer URL; ComponentLink1URL: http://www.analog.com/en/index.html; ComponentLink2Description: Datasheet; ComponentLink2URL: http://www.analog.com/static/imported-files/data_sheets/DAC8408.pdf; ComponentLink3Description: Product URL; ComponentLink3URL: http://www.analog.com/en/digital-to-analog-converters/da-converters/dac8408/products/product.html
footprint RW-28_N (SOIC, 28-Leads, Body 17.9x7.5mm, Pitch 1.27mm, IPC Medium Density)
footprint RW-28_L (SOIC, 28-Leads, Body 17.9x7.5mm, Pitch 1.27mm, IPC High Density)
footprint RW-28_M (SOIC, 28-Leads, Body 17.9x7.5mm, Pitch 1.27mm, IPC Low Density)
pins: 1 VDD (power), 2 VREFA (in), 3 RFBA (in), 4 IOUT 1A (hiz), 5 IOUT 2A/IOUT 2B (hiz), 6 IOUT 1B (hiz), 7 RFBB (in), 8 VREFB (in), 9 DB0 (LSB) (io), 10 DB1 (io), 11 DB2 (io), 12 DB3 (io), 13 DB4 (io), 14 DB5 (io), 15 DB6 (io), 16 DB7 (MSB) (io), 17 A/~{B} (in), 18 R/~{W} (in), 19 ~{DS1} (in), 20 ~{DS2} (in), 21 VREFD (in), 22 RFBD (in), 23 IOUT 1D (hiz), 24 IOUT 2C/IOUT 2D (hiz), 25 IOUT 1C (hiz), 26 RFBC (in), 27 VREFC (in), 28 DGND (power)

## DAC8408FSZ-REEL
designator U?
Quad 8-Bit CMOS Digital-to-Analog Converter with Memory, 0 to +70 degC, RW-28, Pb-Free, Reel; Generic Part Number: DAC8408; Manufacturer: Analog Devices; PartNumber: DAC8408FSZ-REEL; # DAC Outputs: 4; Max V+: 5.5V; Op Pwr Diss: 5mW; Resolution (Bits): 8; Settling Time: 190ns; Single Supply: Yes; DatasheetVersion: Rev.A; PackageVersion: 060706-A; PackageReference: RW-28; PackageDescription: 28-Lead Standard Small Outline Package [SOIC_W]; Supplier 1: Digi-Key; Supplier Part Number 1: DAC8408FSZ-REEL-ND; Supplier 2: Mouser; Supplier Part Number 2: 584-DAC8408FSZ-R; Packing: Reel; RoHS: Y; Mounting Technology: Surface Mount; Code_JEDEC: MS-013-AE; ComponentLink1Description: Manufacturer URL; ComponentLink1URL: http://www.analog.com/en/index.html; ComponentLink2Description: Datasheet; ComponentLink2URL: http://www.analog.com/static/imported-files/data_sheets/DAC8408.pdf; ComponentLink3Description: Product URL; ComponentLink3URL: http://www.analog.com/en/digital-to-analog-converters/da-converters/dac8408/products/product.html
footprint RW-28_N (SOIC, 28-Leads, Body 17.9x7.5mm, Pitch 1.27mm, IPC Medium Density)
footprint RW-28_L (SOIC, 28-Leads, Body 17.9x7.5mm, Pitch 1.27mm, IPC High Density)
footprint RW-28_M (SOIC, 28-Leads, Body 17.9x7.5mm, Pitch 1.27mm, IPC Low Density)
pins: 1 VDD (power), 2 VREFA (in), 3 RFBA (in), 4 IOUT 1A (hiz), 5 IOUT 2A/IOUT 2B (hiz), 6 IOUT 1B (hiz), 7 RFBB (in), 8 VREFB (in), 9 DB0 (LSB) (io), 10 DB1 (io), 11 DB2 (io), 12 DB3 (io), 13 DB4 (io), 14 DB5 (io), 15 DB6 (io), 16 DB7 (MSB) (io), 17 A/~{B} (in), 18 R/~{W} (in), 19 ~{DS1} (in), 20 ~{DS2} (in), 21 VREFD (in), 22 RFBD (in), 23 IOUT 1D (hiz), 24 IOUT 2C/IOUT 2D (hiz), 25 IOUT 1C (hiz), 26 RFBC (in), 27 VREFC (in), 28 DGND (power)

## DAC8408GP
designator U?
Quad 8-Bit CMOS Digital-to-Analog Converter with Memory, 0 to +70 degC, N-28-2, Tube; Generic Part Number: DAC8408; Manufacturer: Analog Devices; PartNumber: DAC8408GP; # DAC Outputs: 4; Max V+: 5.5V; Op Pwr Diss: 5mW; Resolution (Bits): 8; Settling Time: 190ns; Single Supply: Yes; DatasheetVersion: Rev.A; PackageVersion: 071006-A; PackageReference: N-28-2; PackageDescription: 28-Lead Plastic Dual In-Line Package [PDIP]; Supplier 1: Digi-Key; Supplier Part Number 1: DAC8408GP-ND; Supplier 2: Mouser; Supplier Part Number 2: 584-DAC8408GP; Packing: Tube; RoHS: N; Mounting Technology: Through Hole; Code_JEDEC: MS-011; ComponentLink1Description: Manufacturer URL; ComponentLink1URL: http://www.analog.com/en/index.html; ComponentLink2Description: Datasheet; ComponentLink2URL: http://www.analog.com/static/imported-files/data_sheets/DAC8408.pdf; ComponentLink3Description: Package Specification; ComponentLink3URL: http://www.analog.com/static/imported-files/packages/50849324123784N_28_2.pdf; ComponentLink4Description: Product URL; ComponentLink4URL: http://www.analog.com/en/digital-to-analog-converters/da-converters/dac8408/products/product.html
footprint N-28-2 (DIP, 28-Leads, Row Spacing 15.55mm, Pitch 2.54mm, Body 37.4x13.5mm)
pins: 1 VDD (power), 2 VREFA (in), 3 RFBA (in), 4 IOUT 1A (hiz), 5 IOUT 2A/IOUT 2B (hiz), 6 IOUT 1B (hiz), 7 RFBB (in), 8 VREFB (in), 9 DB0 (LSB) (io), 10 DB1 (io), 11 DB2 (io), 12 DB3 (io), 13 DB4 (io), 14 DB5 (io), 15 DB6 (io), 16 DB7 (MSB) (io), 17 A/~{B} (in), 18 R/~{W} (in), 19 ~{DS1} (in), 20 ~{DS2} (in), 21 VREFD (in), 22 RFBD (in), 23 IOUT 1D (hiz), 24 IOUT 2C/IOUT 2D (hiz), 25 IOUT 1C (hiz), 26 RFBC (in), 27 VREFC (in), 28 DGND (power)

## DAC8408GPZ
designator U?
Quad 8-Bit CMOS Digital-to-Analog Converter with Memory, 0 to +70 degC, N-28-2, Pb-Free, Tube; Generic Part Number: DAC8408; Manufacturer: Analog Devices; PartNumber: DAC8408GPZ; # DAC Outputs: 4; Max V+: 5.5V; Op Pwr Diss: 5mW; Resolution (Bits): 8; Settling Time: 190ns; Single Supply: Yes; DatasheetVersion: Rev.A; PackageVersion: 071006-A; PackageReference: N-28-2; PackageDescription: 28-Lead Plastic Dual In-Line Package [PDIP]; Supplier 1: Digi-Key; Supplier Part Number 1: DAC8408GPZ-ND; Supplier 2: Newark; Supplier Part Number 2: 59K7939; Supplier 3: Mouser; Supplier Part Number 3: 584-DAC8408GPZ; Packing: Tube; RoHS: Y; Mounting Technology: Through Hole; Code_JEDEC: MS-011; ComponentLink1Description: Manufacturer URL; ComponentLink1URL: http://www.analog.com/en/index.html; ComponentLink2Description: Datasheet; ComponentLink2URL: http://www.analog.com/static/imported-files/data_sheets/DAC8408.pdf; ComponentLink3Description: Package Specification; ComponentLink3URL: http://www.analog.com/static/imported-files/packages/50849324123784N_28_2.pdf; ComponentLink4Description: Product URL; ComponentLink4URL: http://www.analog.com/en/digital-to-analog-converters/da-converters/dac8408/products/product.html
footprint N-28-2 (DIP, 28-Leads, Row Spacing 15.55mm, Pitch 2.54mm, Body 37.4x13.5mm)
pins: 1 VDD (power), 2 VREFA (in), 3 RFBA (in), 4 IOUT 1A (hiz), 5 IOUT 2A/IOUT 2B (hiz), 6 IOUT 1B (hiz), 7 RFBB (in), 8 VREFB (in), 9 DB0 (LSB) (io), 10 DB1 (io), 11 DB2 (io), 12 DB3 (io), 13 DB4 (io), 14 DB5 (io), 15 DB6 (io), 16 DB7 (MSB) (io), 17 A/~{B} (in), 18 R/~{W} (in), 19 ~{DS1} (in), 20 ~{DS2} (in), 21 VREFD (in), 22 RFBD (in), 23 IOUT 1D (hiz), 24 IOUT 2C/IOUT 2D (hiz), 25 IOUT 1C (hiz), 26 RFBC (in), 27 VREFC (in), 28 DGND (power)

## DAC8412AT/883C
designator U?
Quad 12-Bit Voltage Output Digital-to-Analog Converter with Readback, -55 to +125 degC, Q-28-2, Tube; Generic Part Number: DAC8412; Manufacturer: Analog Devices; PartNumber: DAC8412AT/883C; # DAC Outputs: 4; Max V+: 15.75V; Op Pwr Diss: 330mW; Resolution (Bits): 12; Settling Time: 6µs; Single Supply: No; DatasheetVersion: Rev.F; PackageVersion: 030106-A; PackageReference: Q-28-2; PackageDescription: 28-Lead Ceramic Dual In-Line Package [CERDIP]; Supplier 1: Mouser; Supplier Part Number 1: 584-DAC8412AT883C; Packing: Tube; RoHS: N; Mounting Technology: Through Hole; ComponentLink1Description: Manufacturer URL; ComponentLink1URL: http://www.analog.com/en/index.html; ComponentLink2Description: Datasheet; ComponentLink2URL: http://www.analog.com/static/imported-files/data_sheets/DAC8412_8413.pdf; ComponentLink3Description: Package Specification; ComponentLink3URL: http://www.analog.com/static/imported-files/packages/4045339666127361303Q_28_2.pdf; ComponentLink4Description: Product URL; ComponentLink4URL: http://www.analog.com/en/digital-to-analog-converters/da-converters/dac8412/products/product.html
footprint Q-28-2 (DIP, 28-Leads, Row Spacing 15.24mm, Pitch 2.54mm, Body 37.2x14.1mm)
pins: 1 VREFH (in) "High-Side DAC Reference Input.", 2 VOUTB (out) "DAC B Output.", 3 VOUTA (out) "DAC A Output.", 4 VSS (power) "Lower Rail Power Supply.", 5 DGND (power) "Digital Ground.", 6 ~{RESET} (in) "Reset Input and Output Registers to all 0s, Enabled at Active Low.", 7 ~{LDAC} (in) "Load Data to DAC, Enabled at Active Low.", 8 DB0 (io) "Data Bit 0, LSB.", 9 DB1 (io) "Data Bit 1.", 10 DB2 (io) "Data Bit 2.", 11 DB3 (io) "Data Bit 3.", 12 DB4 (io) "Data Bit 4.", 13 DB5 (io) "Data Bit 5.", 14 DB6 (io) "Data Bit 6.", 15 DB7 (io) "Data Bit 7.", 16 DB8 (io) "Data Bit 8.", 17 DB9 (io) "Data Bit 9.", 18 DB10 (io) "Data Bit 10.", 19 DB11 (io) "Data Bit 11, MSB.", 20 R/~{W} (in) "Active Low to Write Data to DAC. Active high to readback previous data at data bit pins with VLOGIC connected to 5 V.", 21 A1 (in) "Address Bit 1.", 22 A0 (in) "Address Bit 0.", 23 ~{CS} (in) "Chip Select, Enabled at Active Low.", 24 VLOGIC (power) "Voltage Supply for Readback Function. Can be open circuit if not used.", 25 VDD (power) "Upper Rail Power Supply.", 26 VOUTD (out) "DAC D Output.", 27 VOUTC (out) "DAC C Output.", 28 VREFL (in) "Low-Side DAC Reference Input."

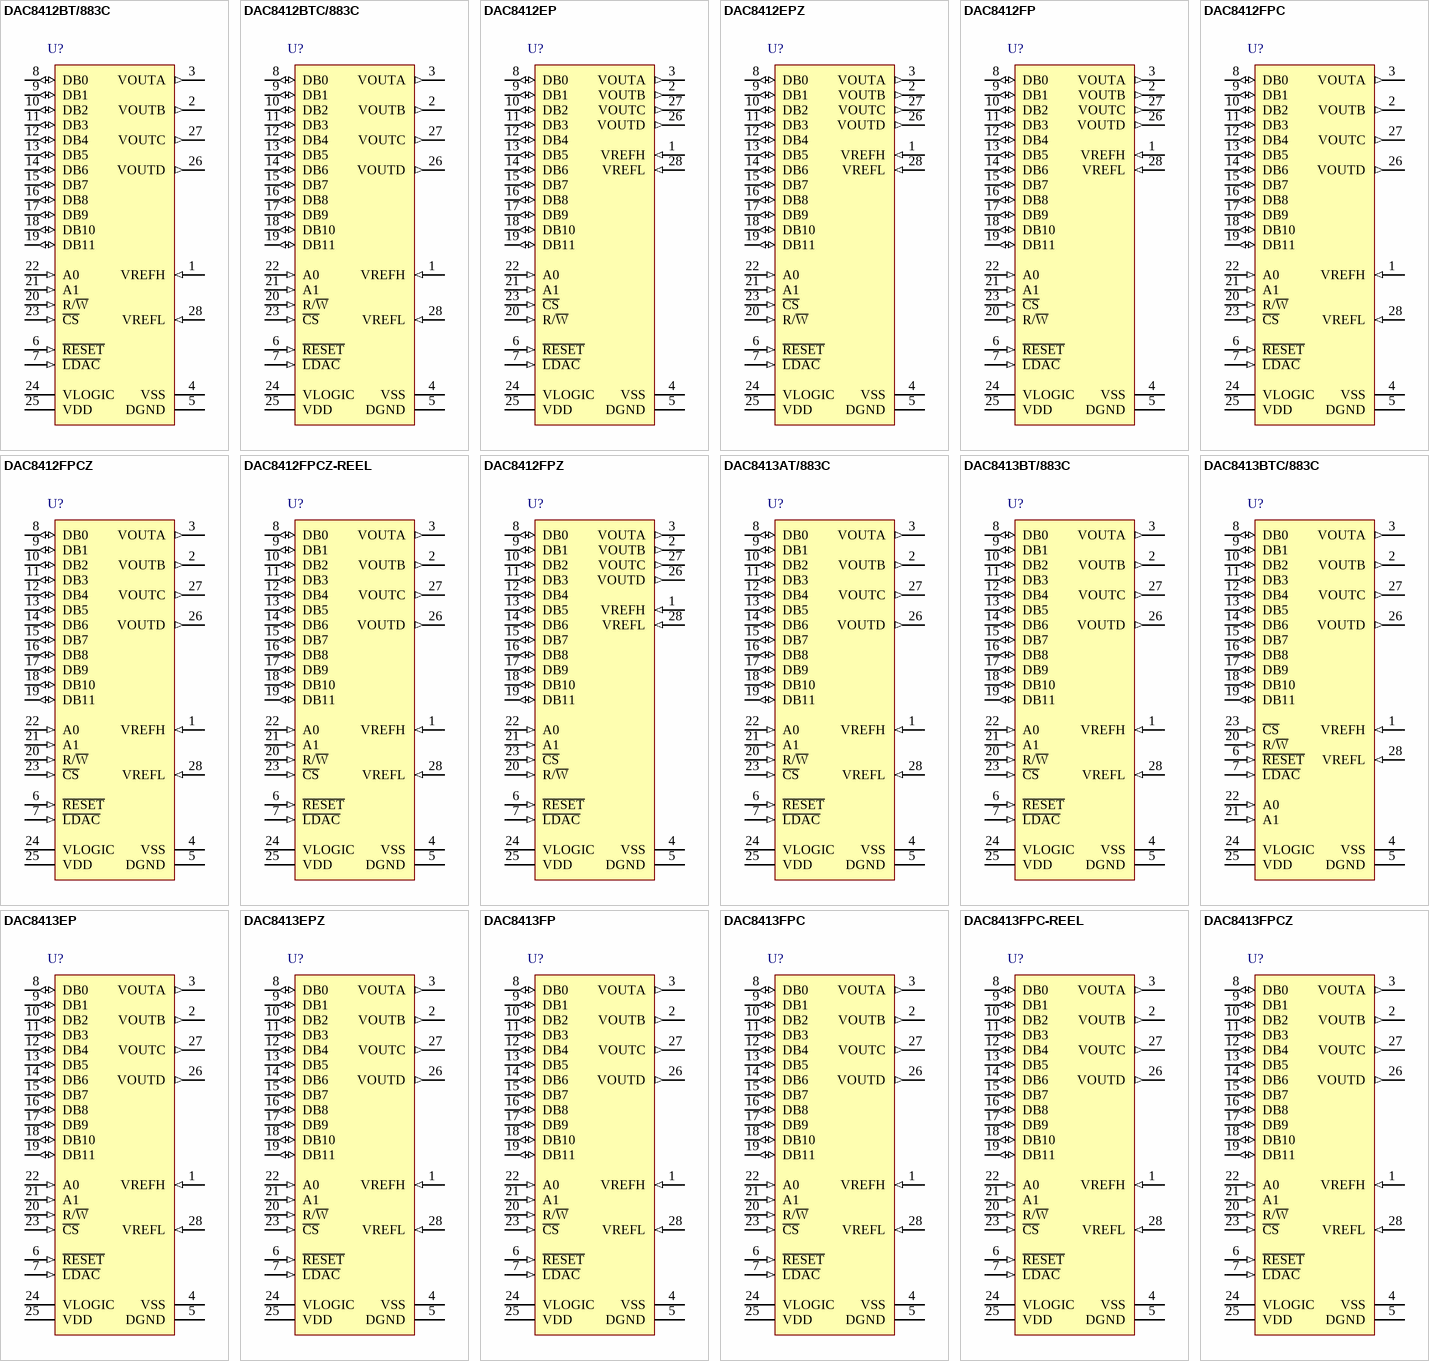
[diagram p112: symbols DAC8412BT/883C to DAC8413FPCZ]

## DAC8412BT/883C
designator U?
Quad 12-Bit Voltage Output Digital-to-Analog Converter with Readback, -55 to +125 degC, Q-28-2, Tube; Generic Part Number: DAC8412; Manufacturer: Analog Devices; PartNumber: DAC8412BT/883C; # DAC Outputs: 4; Max V+: 15.75V; Op Pwr Diss: 330mW; Resolution (Bits): 12; Settling Time: 6µs; Single Supply: No; DatasheetVersion: Rev.F; PackageVersion: 030106-A; PackageReference: Q-28-2; PackageDescription: 28-Lead Ceramic Dual In-Line Package [CERDIP]; Supplier 1: Mouser; Supplier Part Number 1: 584-DAC8412BT883C; Packing: Tube; RoHS: N; Mounting Technology: Through Hole; ComponentLink1Description: Manufacturer URL; ComponentLink1URL: http://www.analog.com/en/index.html; ComponentLink2Description: Datasheet; ComponentLink2URL: http://www.analog.com/static/imported-files/data_sheets/DAC8412_8413.pdf; ComponentLink3Description: Package Specification; ComponentLink3URL: http://www.analog.com/static/imported-files/packages/4045339666127361303Q_28_2.pdf; ComponentLink4Description: Product URL; ComponentLink4URL: http://www.analog.com/en/digital-to-analog-converters/da-converters/dac8412/products/product.html
footprint Q-28-2 (DIP, 28-Leads, Row Spacing 15.24mm, Pitch 2.54mm, Body 37.2x14.1mm)
pins: 1 VREFH (in) "High-Side DAC Reference Input.", 2 VOUTB (out) "DAC B Output.", 3 VOUTA (out) "DAC A Output.", 4 VSS (power) "Lower Rail Power Supply.", 5 DGND (power) "Digital Ground.", 6 ~{RESET} (in) "Reset Input and Output Registers to all 0s, Enabled at Active Low.", 7 ~{LDAC} (in) "Load Data to DAC, Enabled at Active Low.", 8 DB0 (io) "Data Bit 0, LSB.", 9 DB1 (io) "Data Bit 1.", 10 DB2 (io) "Data Bit 2.", 11 DB3 (io) "Data Bit 3.", 12 DB4 (io) "Data Bit 4.", 13 DB5 (io) "Data Bit 5.", 14 DB6 (io) "Data Bit 6.", 15 DB7 (io) "Data Bit 7.", 16 DB8 (io) "Data Bit 8.", 17 DB9 (io) "Data Bit 9.", 18 DB10 (io) "Data Bit 10.", 19 DB11 (io) "Data Bit 11, MSB.", 20 R/~{W} (in) "Active Low to Write Data to DAC. Active high to readback previous data at data bit pins with VLOGIC connected to 5 V.", 21 A1 (in) "Address Bit 1.", 22 A0 (in) "Address Bit 0.", 23 ~{CS} (in) "Chip Select, Enabled at Active Low.", 24 VLOGIC (power) "Voltage Supply for Readback Function. Can be open circuit if not used.", 25 VDD (power) "Upper Rail Power Supply.", 26 VOUTD (out) "DAC D Output.", 27 VOUTC (out) "DAC C Output.", 28 VREFL (in) "Low-Side DAC Reference Input."